# Altium footprint library CONN_SD_CARD_SMD.PcbLib: 1 footprints
Each footprint in its own frame and in the unit in brackets; x right, y up, seen from the top. Pads: shape width x height; smd on the part's side, far side on the other; paste and mask are expansions set on the pad; w line width, h text height; cw(c..) or ccw(c..) is an arc to the next point about the centre after c.
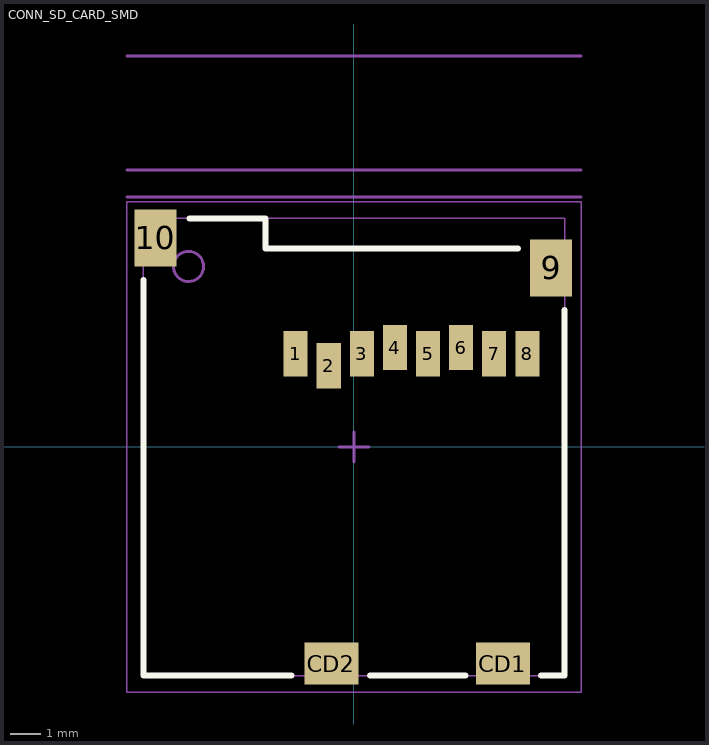
[diagram p0: the footprint, top view; thin cyan lines are the x and y axes]

## CONN_SD_CARD_SMD [mm]
pads (12):
  rect 0.8x1.5 smd: 1(-1.94,3.1) 2(-0.84,2.7) 3(0.26,3.1) 4(1.36,3.3) 5(2.46,3.1) 6(3.56,3.3) 7(4.66,3.1) 8(5.76,3.1)
  rect 1.4x1.9 smd: 9(6.55,5.95) 10(-6.6,6.95)
  rect 1.8x1.4 smd: CD1(4.95,-7.2) CD2(-0.75,-7.2)
Top Overlay:
  lines w0.2: -7,5.55 -7,-7.6 -2.07,-7.6 ; -5.46,7.6 -2.94,7.6 -2.94,6.6 5.45,6.6 ; 0.53,-7.6 3.7,-7.6 ; 6.21,-7.6 7,-7.6 7,4.56
Mechanical 1:
  lines w0.1: -7.54,8.3 7.54,8.3 ; -7.54,9.2 7.54,9.2 ; -7.54,13 7.54,13
Top Assembly:
  circle w0.1: c-5.5,6 r0.5
  lines w0.05: -7,-7.6 7,-7.6 7,7.6 -7,7.6 -7,-7.6
  text ".Designator" at -9.997,-0.666 h2
Top Courtyard:
  lines w0.05: -7.55,-8.15 7.55,-8.15 7.55,8.15 -7.55,8.15 -7.55,-8.15
  lines w0.1: -0.5,0 0.5,0 ; 0,-0.5 0,0.5
3D body "CONN_SD_CARD_SMD.STEP": height 1.86, standoff 0.01, extent -7,-7.6 7,7.6